# EAGLE library part VL53L1X (library FlashPCB_Sensors)
VL53L1X - STMicroelectronics VL53L1X Time-of-Flight Proximity Sensor Technical Specifications: Range: Up to 4m Emitter: Class 1 940nm invisible laser Component Search: [DATA SHEET NAME] <[FLASHPCB URL]> Datasheet: VL53L1X_DS <https://www.st.com/resource/en/datasheet/vl53l1x.pdf>
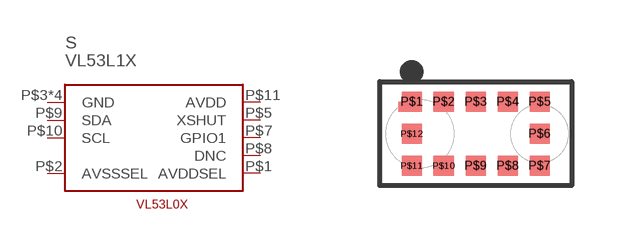
[diagram p31: symbol with the pads of VL53L1X; footprint VL53L1X]

Designator prefix S

## VL53L1X  [VL53L1X]
P$1  AVDDSEL  pwr
P$2  AVSSSEL  pwr
P$3  GND  pwr
P$4  GND  pwr
P$5  XSHUT
P$6  GND  pwr
P$7  GPIO1
P$8  DNC  nc
P$9  SDA
P$10  SCL
P$11  AVDD  pwr
P$12  GND  pwr

## Footprint VL53L1X (pad centres in mm)
smd 0.5 x 0.5: P$1 -1.6,0.8; P$2 -0.8,0.8; P$3 0,0.8; P$4 0.8,0.8; P$5 1.6,0.8; P$6 1.6,0; P$7 1.6,-0.8; P$8 0.8,-0.8; P$9 0,-0.8; P$10 -0.8,-0.8; P$11 -1.6,-0.8; P$12 -1.6,0